# Altium footprint library Footprints.PcbLib: 54 footprints (part 4 of 4)
Each footprint in its own frame and in the unit in brackets; x right, y up, seen from the top. Pads: shape width x height; smd on the part's side, far side on the other; paste and mask are expansions set on the pad; w line width, h text height; cw(c..) or ccw(c..) is an arc to the next point about the centre after c.
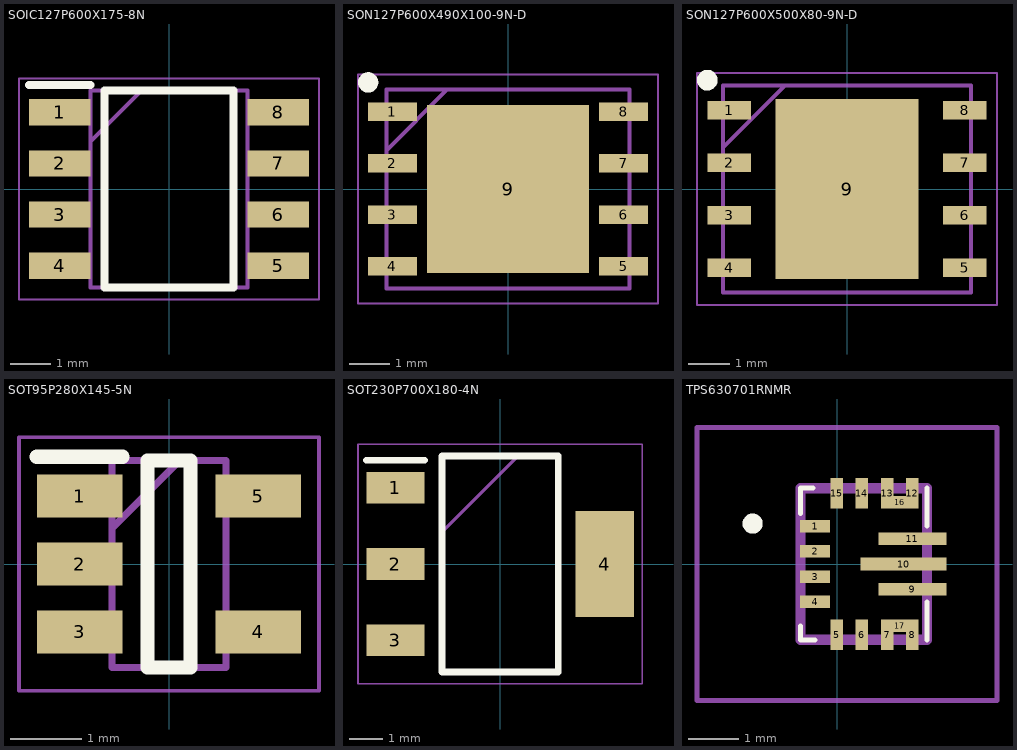
[diagram p3: the footprints below, top view; thin cyan lines are the x and y axes]

## SOIC127P600X175-8N [mm]
pads (8):
  rect 1.525x0.65 smd: 1(-2.712,1.905) 2(-2.712,0.635) 3(-2.712,-0.635) 4(-2.712,-1.905) 5(2.712,-1.905) 6(2.712,-0.635) 7(2.712,0.635) 8(2.712,1.905)
Top Overlay:
  lines w0.2: -3.475,2.58 -1.95,2.58 ; -1.6,-2.45 -1.6,2.45 1.6,2.45 1.6,-2.45 -1.6,-2.45
Mechanical 15:
  lines w0.1: -1.95,1.18 -0.68,2.45 ; -1.95,-2.45 -1.95,2.45 1.95,2.45 1.95,-2.45 -1.95,-2.45
Mechanical 20:
  lines w0.05: -3.725,-2.75 -3.725,2.75 3.725,2.75 3.725,-2.75 -3.725,-2.75

## SON127P600X490X100-9N-D [mm]
pads (9):
  rect 1.2x0.45 smd: 1(-2.85,1.905) 2(-2.85,0.635) 3(-2.85,-0.635) 4(-2.85,-1.905) 5(2.85,-1.905) 6(2.85,-0.635) 7(2.85,0.635) 8(2.85,1.905)
  rect 3.992x4.152 smd: 9(0,0)
Top Overlay:
  circle w0.25: c-3.45,2.63 r0.125
Mechanical 13:
  lines w0.1: -3,0.95 -1.5,2.45 ; -3,-2.45 -3,2.45 3,2.45 3,-2.45 -3,-2.45
Mechanical 15:
  lines w0.05: -3.7,-2.827 -3.7,2.827 3.7,2.827 3.7,-2.827 -3.7,-2.827
3D body "YSF-322+.stp": height 1, standoff 0, extent -3.05,-2.45 3.05,2.45

## SON127P600X500X80-9N-D [mm]
pads (9):
  rect 1.05x0.45 smd: 1(-2.85,1.905) 2(-2.85,0.635) 3(-2.85,-0.635) 4(-2.85,-1.905) 5(2.85,-1.905) 6(2.85,-0.635) 7(2.85,0.635) 8(2.85,1.905)
  rect 3.45x4.35 smd: 9(0,0)
Top Overlay:
  circle w0.25: c-3.375,2.63 r0.125
Mechanical 13:
  lines w0.1: -3,1 -1.5,2.5 ; -3,-2.5 3,-2.5 3,2.5 -3,2.5 -3,-2.5
Mechanical 15:
  lines w0.05: -3.625,-2.8 3.625,-2.8 3.625,2.8 -3.625,2.8 -3.625,-2.8
3D body "W25Q128JVPIQ_TR.stp": height 0.8, standoff 0, extent -3.05,-2.5 3.05,2.5

## SOT95P280X145-5N [mm]
pads (5):
  rect 1.2x0.6 smd: 1(-1.25,0.95) 2(-1.25,0) 3(-1.25,-0.95) 4(1.25,-0.95) 5(1.25,0.95)
Top Overlay:
  lines w0.2: -1.85,1.5 -0.65,1.5 ; -0.3,-1.45 -0.3,1.45 0.3,1.45 0.3,-1.45 -0.3,-1.45
Mechanical 13:
  lines w0.1: -0.8,0.5 0.15,1.45 ; -0.8,-1.45 -0.8,1.45 0.8,1.45 0.8,-1.45 -0.8,-1.45
Mechanical 15:
  lines w0.05: -2.1,-1.775 -2.1,1.775 2.1,1.775 2.1,-1.775 -2.1,-1.775
3D body "TPS73618DBVR.stp": height 1.2, standoff 0, extent -1.4,-1.45 1.4,1.45

## SOT230P700X180-4N [mm]
pads (4):
  rect 1.75x0.95 smd: 1(-3.15,2.3) 2(-3.15,0) 3(-3.15,-2.3)
  rect 1.75x3.2 smd: 4(3.15,0)
Top Overlay:
  lines w0.2: -4.025,3.125 -2.275,3.125 ; -1.75,-3.25 1.75,-3.25 1.75,3.25 -1.75,3.25 -1.75,-3.25
Mechanical 13:
  lines w0.1: -1.75,0.95 0.55,3.25 ; -1.75,-3.25 1.75,-3.25 1.75,3.25 -1.75,3.25 -1.75,-3.25
Mechanical 15:
  lines w0.05: -4.275,-3.6 4.275,-3.6 4.275,3.6 -4.275,3.6 -4.275,-3.6
3D body "LM3940IMP-3.3_NOPB.stp": height 1.68, standoff 0, extent -3.5,-3.25 3.5,3.25

## TPS630701RNMR [mm]
pads (17):
  rect 0.6x0.25 smd: 1(-0.438,0.75) 2(-0.438,0.25) 3(-0.438,-0.25) 4(-0.438,-0.75)
  rect 0.25x0.6 smd: 5(-0.012,-1.4) 6(0.488,-1.4) 7(0.988,-1.4) 8(1.488,-1.4) 12(1.488,1.4) 13(0.988,1.4) 14(0.488,1.4) 15(-0.012,1.4)
  rect 1.35x0.25 smd: 9(1.488,-0.5) 11(1.488,0.5)
  rect 1.7x0.25 smd: 10(1.313,0)
  rect 0.25x0.25 smd: 16(1.238,1.225) 17(1.238,-1.225)
Top Overlay:
  lines w0.1: -0.725,-1.225 -0.725,-1.5 -0.438,-1.5 ; -0.725,1 -0.725,1.5 -0.475,1.5 ; 1.775,-1.5 1.775,-0.75 ; 1.775,0.75 1.775,1.5
  lines w0.2: -1.675,0.7 cw(c-1.675,0.8) -1.675,0.9 cw(c-1.675,0.8) -1.675,0.7
Mechanical 13:
  lines w0.2: -0.725,-1.5 1.775,-1.5 1.775,1.5 -0.725,1.5 -0.725,-1.5
Mechanical 15:
  lines w0.1: -2.775,-2.7 3.163,-2.7 3.163,2.7 -2.775,2.7 -2.775,-2.7
3D body "TPS63070RNMR.stp": height 1, standoff 0, extent -0.54,-1.5 1.96,1.5